# Altium footprint library 2.54排针排母.PcbLib: 60 footprints (part 4 of 4)
Each footprint in its own frame and in the unit in brackets; x right, y up, seen from the top. Pads: shape width x height; smd on the part's side, far side on the other; paste and mask are expansions set on the pad; w line width, h text height; cw(c..) or ccw(c..) is an arc to the next point about the centre after c.
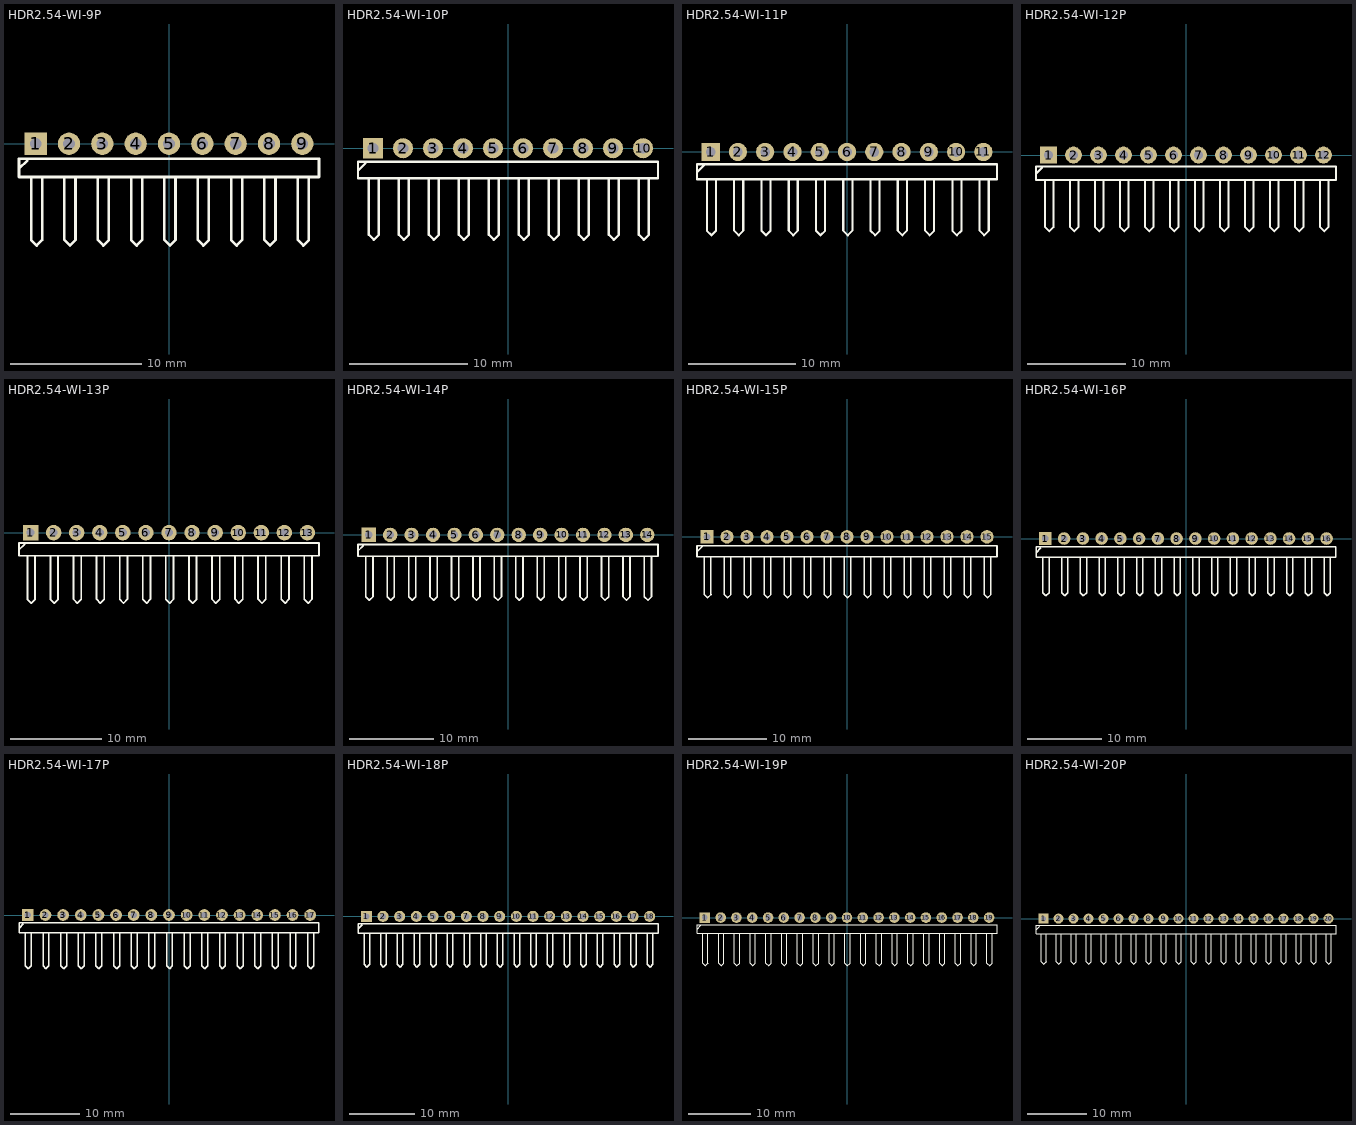
[diagram p3: the footprints below, top view; thin cyan lines are the x and y axes]

## HDR2.54-WI-9P [mm] "弯脚排针，9脚"
pads (9):
  rect 1.7x1.7 hole 0.9: 1(-10.16,0)
  round 1.7 hole 0.9: 2(-7.62,0) 3(-5.08,0) 4(-2.54,0) 5(0,0) 6(2.54,0) 7(5.08,0) 8(7.62,0) 9(10.16,0)
Top Overlay:
  lines w0.2: -11.43,-1.905 -10.795,-1.27 ; -10.508,-2.54 -10.508,-7.332 -10.085,-7.755 -9.661,-7.332 -9.652,-7.323 ; -9.661,-7.323 -9.661,-2.54 ; -7.968,-2.54 -7.968,-7.332 -7.545,-7.755 -7.121,-7.332 ; -7.121,-7.323 -7.121,-2.54 ; -5.428,-2.54 -5.428,-7.332 -5.005,-7.755 -4.581,-7.332 ; -4.581,-7.323 -4.581,-2.54 ; -2.888,-2.54 -2.888,-7.332 -2.465,-7.755 -2.041,-7.332 ; -2.041,-7.323 -2.041,-2.54 ; -0.348,-2.54 -0.348,-7.332 0.075,-7.755 0.499,-7.332 ; 0.499,-7.323 0.499,-2.54 ; 2.192,-2.54 2.192,-7.332 2.615,-7.755 3.039,-7.332 ; 3.039,-7.323 3.039,-2.54 ; 4.732,-2.54 4.732,-7.332 5.155,-7.755 5.579,-7.332 ; 5.579,-7.323 5.579,-2.54 ; 7.272,-2.54 7.272,-7.332 7.695,-7.755 8.119,-7.332 ; 8.119,-7.323 8.119,-2.54 ; 9.812,-2.54 9.812,-7.332 10.235,-7.755 10.659,-7.332 ; 10.659,-7.323 10.659,-2.54 ; -11.43,-2.54 -11.43,-1.143 -9.652,-1.143 11.43,-1.143 11.43,-2.54 -11.43,-2.54
3D body "HDR2.54-1P_H.STEP": height 4.85, standoff -3, extent -11.43,-7.77 -8.89,1.27
3D body "HDR2.54-1P_H.STEP": height 4.85, standoff -3, extent -8.89,-7.77 -6.35,1.27
3D body "HDR2.54-1P_H.STEP": height 4.85, standoff -3, extent -6.35,-7.77 -3.81,1.27
3D body "HDR2.54-1P_H.STEP": height 4.85, standoff -3, extent -3.81,-7.77 -1.27,1.27
3D body "HDR2.54-1P_H.STEP": height 4.85, standoff -3, extent -1.27,-7.77 1.27,1.27
3D body "HDR2.54-1P_H.STEP": height 4.85, standoff -3, extent 1.27,-7.77 3.81,1.27
3D body "HDR2.54-1P_H.STEP": height 4.85, standoff -3, extent 3.81,-7.77 6.35,1.27
3D body "HDR2.54-1P_H.STEP": height 4.85, standoff -3, extent 6.35,-7.77 8.89,1.27
3D body "HDR2.54-1P_H.STEP": height 4.85, standoff -3, extent 8.89,-7.77 11.43,1.27

## HDR2.54-WI-10P [mm] "弯脚排针，10脚"
pads (10):
  rect 1.7x1.7 hole 0.9: 1(-11.43,0)
  round 1.7 hole 0.9: 2(-8.89,0) 3(-6.35,0) 4(-3.81,0) 5(-1.27,0) 6(1.27,0) 7(3.81,0) 8(6.35,0) 9(8.89,0) 10(11.43,0)
Top Overlay:
  lines w0.2: -12.7,-1.905 -12.065,-1.27 ; -11.778,-2.54 -11.778,-7.332 -11.355,-7.755 -10.931,-7.332 -10.922,-7.323 ; -10.931,-7.323 -10.931,-2.54 ; -9.238,-2.54 -9.238,-7.332 -8.815,-7.755 -8.391,-7.332 ; -8.391,-7.323 -8.391,-2.54 ; -6.698,-2.54 -6.698,-7.332 -6.275,-7.755 -5.851,-7.332 ; -5.851,-7.323 -5.851,-2.54 ; -4.158,-2.54 -4.158,-7.332 -3.735,-7.755 -3.311,-7.332 ; -3.311,-7.323 -3.311,-2.54 ; -1.618,-2.54 -1.618,-7.332 -1.195,-7.755 -0.771,-7.332 ; -0.771,-7.323 -0.771,-2.54 ; 0.922,-2.54 0.922,-7.332 1.345,-7.755 1.769,-7.332 ; 1.769,-7.323 1.769,-2.54 ; 3.462,-2.54 3.462,-7.332 3.885,-7.755 4.309,-7.332 ; 4.309,-7.323 4.309,-2.54 ; 6.002,-2.54 6.002,-7.332 6.425,-7.755 6.849,-7.332 ; 6.849,-7.323 6.849,-2.54 ; 8.542,-2.54 8.542,-7.332 8.965,-7.755 9.389,-7.332 ; 9.389,-7.323 9.389,-2.54 ; 11.082,-2.54 11.082,-7.332 11.505,-7.755 11.929,-7.332 ; 11.929,-7.323 11.929,-2.54 ; -12.7,-2.54 12.7,-2.54 12.7,-1.143 -10.922,-1.143 -12.7,-1.143 -12.7,-2.54
3D body "HDR2.54-1P_H.STEP": height 4.85, standoff -3, extent 10.16,-7.77 12.7,1.27
3D body "HDR2.54-1P_H.STEP": height 4.85, standoff -3, extent 7.62,-7.77 10.16,1.27
3D body "HDR2.54-1P_H.STEP": height 4.85, standoff -3, extent 5.08,-7.77 7.62,1.27
3D body "HDR2.54-1P_H.STEP": height 4.85, standoff -3, extent 2.54,-7.77 5.08,1.27
3D body "HDR2.54-1P_H.STEP": height 4.85, standoff -3, extent 0,-7.77 2.54,1.27
3D body "HDR2.54-1P_H.STEP": height 4.85, standoff -3, extent -2.54,-7.77 0,1.27
3D body "HDR2.54-1P_H.STEP": height 4.85, standoff -3, extent -5.08,-7.77 -2.54,1.27
3D body "HDR2.54-1P_H.STEP": height 4.85, standoff -3, extent -7.62,-7.77 -5.08,1.27
3D body "HDR2.54-1P_H.STEP": height 4.85, standoff -3, extent -10.16,-7.77 -7.62,1.27
3D body "HDR2.54-1P_H.STEP": height 4.85, standoff -3, extent -12.7,-7.77 -10.16,1.27

## HDR2.54-WI-11P [mm] "弯脚排针，11脚"
pads (11):
  rect 1.7x1.7 hole 0.9: 1(-12.7,0)
  round 1.7 hole 0.9: 2(-10.16,0) 3(-7.62,0) 4(-5.08,0) 5(-2.54,0) 6(0,0) 7(2.54,0) 8(5.08,0) 9(7.62,0) 10(10.16,0) 11(12.7,0)
Top Overlay:
  lines w0.2: -13.97,-1.905 -13.335,-1.27 ; -13.048,-2.54 -13.048,-7.332 -12.625,-7.755 -12.201,-7.332 -12.192,-7.323 ; -12.201,-7.323 -12.201,-2.54 ; -10.508,-2.54 -10.508,-7.332 -10.085,-7.755 -9.661,-7.332 ; -9.661,-7.323 -9.661,-2.54 ; -7.968,-2.54 -7.968,-7.332 -7.545,-7.755 -7.121,-7.332 ; -7.121,-7.323 -7.121,-2.54 ; -5.428,-2.54 -5.428,-7.332 -5.005,-7.755 -4.581,-7.332 ; -4.581,-7.323 -4.581,-2.54 ; -2.888,-2.54 -2.888,-7.332 -2.465,-7.755 -2.041,-7.332 ; -2.041,-7.323 -2.041,-2.54 ; -0.348,-2.54 -0.348,-7.332 0.075,-7.755 0.499,-7.332 ; 0.499,-7.323 0.499,-2.54 ; 2.192,-2.54 2.192,-7.332 2.615,-7.755 3.039,-7.332 ; 3.039,-7.323 3.039,-2.54 ; 4.732,-2.54 4.732,-7.332 5.155,-7.755 5.579,-7.332 ; 5.579,-7.323 5.579,-2.54 ; 7.272,-2.54 7.272,-7.332 7.695,-7.755 8.119,-7.332 ; 8.119,-7.323 8.119,-2.54 ; 9.812,-2.54 9.812,-7.332 10.235,-7.755 10.659,-7.332 ; 10.659,-7.323 10.659,-2.54 ; 12.352,-2.54 12.352,-7.332 12.775,-7.755 13.199,-7.332 ; 13.199,-7.323 13.199,-2.54 ; -13.97,-2.54 -13.97,-1.143 -12.192,-1.143 13.97,-1.143 13.97,-2.54 -13.97,-2.54
3D body "HDR2.54-1P_H.STEP": height 4.85, standoff -3, extent -13.97,-7.77 -11.43,1.27
3D body "HDR2.54-1P_H.STEP": height 4.85, standoff -3, extent -11.43,-7.77 -8.89,1.27
3D body "HDR2.54-1P_H.STEP": height 4.85, standoff -3, extent -8.89,-7.77 -6.35,1.27
3D body "HDR2.54-1P_H.STEP": height 4.85, standoff -3, extent -6.35,-7.77 -3.81,1.27
3D body "HDR2.54-1P_H.STEP": height 4.85, standoff -3, extent -3.81,-7.77 -1.27,1.27
3D body "HDR2.54-1P_H.STEP": height 4.85, standoff -3, extent -1.27,-7.77 1.27,1.27
3D body "HDR2.54-1P_H.STEP": height 4.85, standoff -3, extent 1.27,-7.77 3.81,1.27
3D body "HDR2.54-1P_H.STEP": height 4.85, standoff -3, extent 3.81,-7.77 6.35,1.27
3D body "HDR2.54-1P_H.STEP": height 4.85, standoff -3, extent 6.35,-7.77 8.89,1.27
3D body "HDR2.54-1P_H.STEP": height 4.85, standoff -3, extent 8.89,-7.77 11.43,1.27
3D body "HDR2.54-1P_H.STEP": height 4.85, standoff -3, extent 11.43,-7.77 13.97,1.27

## HDR2.54-WI-12P [mm] "弯脚排针，12脚"
pads (12):
  rect 1.7x1.7 hole 0.9: 1(-13.97,0)
  round 1.7 hole 0.9: 2(-11.43,0) 3(-8.89,0) 4(-6.35,0) 5(-3.81,0) 6(-1.27,0) 7(1.27,0) 8(3.81,0) 9(6.35,0) 10(8.89,0) 11(11.43,0) 12(13.97,0)
Top Overlay:
  lines w0.2: -15.24,-1.905 -14.605,-1.27 ; -14.318,-2.54 -14.318,-7.332 -13.895,-7.755 -13.471,-7.332 -13.462,-7.323 ; -13.471,-7.323 -13.471,-2.54 ; -11.778,-2.54 -11.778,-7.332 -11.355,-7.755 -10.931,-7.332 ; -10.931,-7.323 -10.931,-2.54 ; -9.238,-2.54 -9.238,-7.332 -8.815,-7.755 -8.391,-7.332 ; -8.391,-7.323 -8.391,-2.54 ; -6.698,-2.54 -6.698,-7.332 -6.275,-7.755 -5.851,-7.332 ; -5.851,-7.323 -5.851,-2.54 ; -4.158,-2.54 -4.158,-7.332 -3.735,-7.755 -3.311,-7.332 ; -3.311,-7.323 -3.311,-2.54 ; -1.618,-2.54 -1.618,-7.332 -1.195,-7.755 -0.771,-7.332 ; -0.771,-7.323 -0.771,-2.54 ; 0.922,-2.54 0.922,-7.332 1.345,-7.755 1.769,-7.332 ; 1.769,-7.323 1.769,-2.54 ; 3.462,-2.54 3.462,-7.332 3.885,-7.755 4.309,-7.332 ; 4.309,-7.323 4.309,-2.54 ; 6.002,-2.54 6.002,-7.332 6.425,-7.755 6.849,-7.332 ; 6.849,-7.323 6.849,-2.54 ; 8.542,-2.54 8.542,-7.332 8.965,-7.755 9.389,-7.332 ; 9.389,-7.323 9.389,-2.54 ; 11.082,-2.54 11.082,-7.332 11.505,-7.755 11.929,-7.332 ; 11.929,-7.323 11.929,-2.54 ; 13.622,-2.54 13.622,-7.332 14.045,-7.755 14.469,-7.332 ; 14.469,-7.323 14.469,-2.54 ; -15.24,-2.54 -15.24,-1.143 -13.462,-1.143 15.24,-1.143 15.24,-2.54 -15.24,-2.54
3D body "HDR2.54-1P_H.STEP": height 4.85, standoff -3, extent 12.7,-7.77 15.24,1.27
3D body "HDR2.54-1P_H.STEP": height 4.85, standoff -3, extent 10.16,-7.77 12.7,1.27
3D body "HDR2.54-1P_H.STEP": height 4.85, standoff -3, extent 7.62,-7.77 10.16,1.27
3D body "HDR2.54-1P_H.STEP": height 4.85, standoff -3, extent 5.08,-7.77 7.62,1.27
3D body "HDR2.54-1P_H.STEP": height 4.85, standoff -3, extent 2.54,-7.77 5.08,1.27
3D body "HDR2.54-1P_H.STEP": height 4.85, standoff -3, extent 0,-7.77 2.54,1.27
3D body "HDR2.54-1P_H.STEP": height 4.85, standoff -3, extent -2.54,-7.77 0,1.27
3D body "HDR2.54-1P_H.STEP": height 4.85, standoff -3, extent -5.08,-7.77 -2.54,1.27
3D body "HDR2.54-1P_H.STEP": height 4.85, standoff -3, extent -7.62,-7.77 -5.08,1.27
3D body "HDR2.54-1P_H.STEP": height 4.85, standoff -3, extent -10.16,-7.77 -7.62,1.27
3D body "HDR2.54-1P_H.STEP": height 4.85, standoff -3, extent -12.7,-7.77 -10.16,1.27
3D body "HDR2.54-1P_H.STEP": height 4.85, standoff -3, extent -15.24,-7.77 -12.7,1.27

## HDR2.54-WI-13P [mm] "弯脚排针，13脚"
pads (13):
  rect 1.7x1.7 hole 0.9: 1(-15.24,0)
  round 1.7 hole 0.9: 2(-12.7,0) 3(-10.16,0) 4(-7.62,0) 5(-5.08,0) 6(-2.54,0) 7(0,0) 8(2.54,0) 9(5.08,0) 10(7.62,0) 11(10.16,0) 12(12.7,0) 13(15.24,0)
Top Overlay:
  lines w0.2: -16.51,-1.905 -15.875,-1.27 ; -15.588,-2.54 -15.588,-7.332 -15.165,-7.755 -14.741,-7.332 -14.732,-7.323 ; -14.741,-7.323 -14.741,-2.54 ; -13.048,-2.54 -13.048,-7.332 -12.625,-7.755 -12.201,-7.332 ; -12.201,-7.323 -12.201,-2.54 ; -10.508,-2.54 -10.508,-7.332 -10.085,-7.755 -9.661,-7.332 ; -9.661,-7.323 -9.661,-2.54 ; -7.968,-2.54 -7.968,-7.332 -7.545,-7.755 -7.121,-7.332 ; -7.121,-7.323 -7.121,-2.54 ; -5.428,-2.54 -5.428,-7.332 -5.005,-7.755 -4.581,-7.332 ; -4.581,-7.323 -4.581,-2.54 ; -2.888,-2.54 -2.888,-7.332 -2.465,-7.755 -2.041,-7.332 ; -2.041,-7.323 -2.041,-2.54 ; -0.348,-2.54 -0.348,-7.332 0.075,-7.755 0.499,-7.332 ; 0.499,-7.323 0.499,-2.54 ; 2.192,-2.54 2.192,-7.332 2.615,-7.755 3.039,-7.332 ; 3.039,-7.323 3.039,-2.54 ; 4.732,-2.54 4.732,-7.332 5.155,-7.755 5.579,-7.332 ; 5.579,-7.323 5.579,-2.54 ; 7.272,-2.54 7.272,-7.332 7.695,-7.755 8.119,-7.332 ; 8.119,-7.323 8.119,-2.54 ; 9.812,-2.54 9.812,-7.332 10.235,-7.755 10.659,-7.332 ; 10.659,-7.323 10.659,-2.54 ; 12.352,-2.54 12.352,-7.332 12.775,-7.755 13.199,-7.332 ; 13.199,-7.323 13.199,-2.54 ; 14.892,-2.54 14.892,-7.332 15.315,-7.755 15.739,-7.332 ; 15.739,-7.323 15.739,-2.54 ; -16.51,-2.54 16.51,-2.54 16.51,-1.143 -14.732,-1.143 -16.51,-1.143 -16.51,-2.54
3D body "HDR2.54-1P_H.STEP": height 4.85, standoff -3, extent 13.97,-7.77 16.51,1.27
3D body "HDR2.54-1P_H.STEP": height 4.85, standoff -3, extent 11.43,-7.77 13.97,1.27
3D body "HDR2.54-1P_H.STEP": height 4.85, standoff -3, extent 8.89,-7.77 11.43,1.27
3D body "HDR2.54-1P_H.STEP": height 4.85, standoff -3, extent 6.35,-7.77 8.89,1.27
3D body "HDR2.54-1P_H.STEP": height 4.85, standoff -3, extent 3.81,-7.77 6.35,1.27
3D body "HDR2.54-1P_H.STEP": height 4.85, standoff -3, extent 1.27,-7.77 3.81,1.27
3D body "HDR2.54-1P_H.STEP": height 4.85, standoff -3, extent -1.27,-7.77 1.27,1.27
3D body "HDR2.54-1P_H.STEP": height 4.85, standoff -3, extent -3.81,-7.77 -1.27,1.27
3D body "HDR2.54-1P_H.STEP": height 4.85, standoff -3, extent -6.35,-7.77 -3.81,1.27
3D body "HDR2.54-1P_H.STEP": height 4.85, standoff -3, extent -8.89,-7.77 -6.35,1.27
3D body "HDR2.54-1P_H.STEP": height 4.85, standoff -3, extent -11.43,-7.77 -8.89,1.27
3D body "HDR2.54-1P_H.STEP": height 4.85, standoff -3, extent -13.97,-7.77 -11.43,1.27
3D body "HDR2.54-1P_H.STEP": height 4.85, standoff -3, extent -16.51,-7.77 -13.97,1.27

## HDR2.54-WI-14P [mm] "弯脚排针，14脚"
pads (14):
  rect 1.7x1.7 hole 0.9: 1(-16.51,0)
  round 1.7 hole 0.9: 2(-13.97,0) 3(-11.43,0) 4(-8.89,0) 5(-6.35,0) 6(-3.81,0) 7(-1.27,0) 8(1.27,0) 9(3.81,0) 10(6.35,0) 11(8.89,0) 12(11.43,0) 13(13.97,0) 14(16.51,0)
Top Overlay:
  lines w0.2: -17.78,-1.905 -17.145,-1.27 ; -16.858,-2.54 -16.858,-7.332 -16.435,-7.755 -16.011,-7.332 -16.002,-7.323 ; -16.011,-7.323 -16.011,-2.54 ; -14.318,-2.54 -14.318,-7.332 -13.895,-7.755 -13.471,-7.332 ; -13.471,-7.323 -13.471,-2.54 ; -11.778,-2.54 -11.778,-7.332 -11.355,-7.755 -10.931,-7.332 ; -10.931,-7.323 -10.931,-2.54 ; -9.238,-2.54 -9.238,-7.332 -8.815,-7.755 -8.391,-7.332 ; -8.391,-7.323 -8.391,-2.54 ; -6.698,-2.54 -6.698,-7.332 -6.275,-7.755 -5.851,-7.332 ; -5.851,-7.323 -5.851,-2.54 ; -4.158,-2.54 -4.158,-7.332 -3.735,-7.755 -3.311,-7.332 ; -3.311,-7.323 -3.311,-2.54 ; -1.618,-2.54 -1.618,-7.332 -1.195,-7.755 -0.771,-7.332 ; -0.771,-7.323 -0.771,-2.54 ; 0.922,-2.54 0.922,-7.332 1.345,-7.755 1.769,-7.332 ; 1.769,-7.323 1.769,-2.54 ; 3.462,-2.54 3.462,-7.332 3.885,-7.755 4.309,-7.332 ; 4.309,-7.323 4.309,-2.54 ; 6.002,-2.54 6.002,-7.332 6.425,-7.755 6.849,-7.332 ; 6.849,-7.323 6.849,-2.54 ; 8.542,-2.54 8.542,-7.332 8.965,-7.755 9.389,-7.332 ; 9.389,-7.323 9.389,-2.54 ; 11.082,-2.54 11.082,-7.332 11.505,-7.755 11.929,-7.332 ; 11.929,-7.323 11.929,-2.54 ; 13.622,-2.54 13.622,-7.332 14.045,-7.755 14.469,-7.332 ; 14.469,-7.323 14.469,-2.54 ; 16.162,-2.54 16.162,-7.332 16.585,-7.755 17.009,-7.332 ; 17.009,-7.323 17.009,-2.54 ; -17.78,-2.54 -17.78,-1.143 -16.002,-1.143 17.78,-1.143 17.78,-2.54 -17.78,-2.54
3D body "HDR2.54-1P_H.STEP": height 4.85, standoff -3, extent 15.24,-7.77 17.78,1.27
3D body "HDR2.54-1P_H.STEP": height 4.85, standoff -3, extent 12.7,-7.77 15.24,1.27
3D body "HDR2.54-1P_H.STEP": height 4.85, standoff -3, extent 10.16,-7.77 12.7,1.27
3D body "HDR2.54-1P_H.STEP": height 4.85, standoff -3, extent 7.62,-7.77 10.16,1.27
3D body "HDR2.54-1P_H.STEP": height 4.85, standoff -3, extent 5.08,-7.77 7.62,1.27
3D body "HDR2.54-1P_H.STEP": height 4.85, standoff -3, extent 2.54,-7.77 5.08,1.27
3D body "HDR2.54-1P_H.STEP": height 4.85, standoff -3, extent 0,-7.77 2.54,1.27
3D body "HDR2.54-1P_H.STEP": height 4.85, standoff -3, extent -2.54,-7.77 0,1.27
3D body "HDR2.54-1P_H.STEP": height 4.85, standoff -3, extent -5.08,-7.77 -2.54,1.27
3D body "HDR2.54-1P_H.STEP": height 4.85, standoff -3, extent -7.62,-7.77 -5.08,1.27
3D body "HDR2.54-1P_H.STEP": height 4.85, standoff -3, extent -10.16,-7.77 -7.62,1.27
3D body "HDR2.54-1P_H.STEP": height 4.85, standoff -3, extent -12.7,-7.77 -10.16,1.27
3D body "HDR2.54-1P_H.STEP": height 4.85, standoff -3, extent -15.24,-7.77 -12.7,1.27
3D body "HDR2.54-1P_H.STEP": height 4.85, standoff -3, extent -17.78,-7.77 -15.24,1.27

## HDR2.54-WI-15P [mm] "弯脚排针，15脚"
pads (15):
  rect 1.7x1.7 hole 0.9: 1(-17.78,0)
  round 1.7 hole 0.9: 2(-15.24,0) 3(-12.7,0) 4(-10.16,0) 5(-7.62,0) 6(-5.08,0) 7(-2.54,0) 8(0,0) 9(2.54,0) 10(5.08,0) 11(7.62,0) 12(10.16,0) 13(12.7,0) 14(15.24,0) 15(17.78,0)
Top Overlay:
  lines w0.2: -19.05,-1.905 -18.415,-1.27 ; -18.128,-2.54 -18.128,-7.332 -17.705,-7.755 -17.281,-7.332 -17.272,-7.323 ; -17.281,-7.323 -17.281,-2.54 ; -15.588,-2.54 -15.588,-7.332 -15.165,-7.755 -14.741,-7.332 ; -14.741,-7.323 -14.741,-2.54 ; -13.048,-2.54 -13.048,-7.332 -12.625,-7.755 -12.201,-7.332 ; -12.201,-7.323 -12.201,-2.54 ; -10.508,-2.54 -10.508,-7.332 -10.085,-7.755 -9.661,-7.332 ; -9.661,-7.323 -9.661,-2.54 ; -7.968,-2.54 -7.968,-7.332 -7.545,-7.755 -7.121,-7.332 ; -7.121,-7.323 -7.121,-2.54 ; -5.428,-2.54 -5.428,-7.332 -5.005,-7.755 -4.581,-7.332 ; -4.581,-7.323 -4.581,-2.54 ; -2.888,-2.54 -2.888,-7.332 -2.465,-7.755 -2.041,-7.332 ; -2.041,-7.323 -2.041,-2.54 ; -0.348,-2.54 -0.348,-7.332 0.075,-7.755 0.499,-7.332 ; 0.499,-7.323 0.499,-2.54 ; 2.192,-2.54 2.192,-7.332 2.615,-7.755 3.039,-7.332 ; 3.039,-7.323 3.039,-2.54 ; 4.732,-2.54 4.732,-7.332 5.155,-7.755 5.579,-7.332 ; 5.579,-7.323 5.579,-2.54 ; 7.272,-2.54 7.272,-7.332 7.695,-7.755 8.119,-7.332 ; 8.119,-7.323 8.119,-2.54 ; 9.812,-2.54 9.812,-7.332 10.235,-7.755 10.659,-7.332 ; 10.659,-7.323 10.659,-2.54 ; 12.352,-2.54 12.352,-7.332 12.775,-7.755 13.199,-7.332 ; 13.199,-7.323 13.199,-2.54 ; 14.892,-2.54 14.892,-7.332 15.315,-7.755 15.739,-7.332 ; 15.739,-7.323 15.739,-2.54 ; 17.432,-2.54 17.432,-7.332 17.855,-7.755 18.279,-7.332 ; 18.279,-7.323 18.279,-2.54 ; -19.05,-2.54 -19.05,-1.143 -17.272,-1.143 19.05,-1.143 19.05,-2.54 -19.05,-2.54
3D body "HDR2.54-1P_H.STEP": height 4.85, standoff -3, extent -19.05,-7.77 -16.51,1.27
3D body "HDR2.54-1P_H.STEP": height 4.85, standoff -3, extent -16.51,-7.77 -13.97,1.27
3D body "HDR2.54-1P_H.STEP": height 4.85, standoff -3, extent -13.97,-7.77 -11.43,1.27
3D body "HDR2.54-1P_H.STEP": height 4.85, standoff -3, extent -11.43,-7.77 -8.89,1.27
3D body "HDR2.54-1P_H.STEP": height 4.85, standoff -3, extent -8.89,-7.77 -6.35,1.27
3D body "HDR2.54-1P_H.STEP": height 4.85, standoff -3, extent -6.35,-7.77 -3.81,1.27
3D body "HDR2.54-1P_H.STEP": height 4.85, standoff -3, extent -3.81,-7.77 -1.27,1.27
3D body "HDR2.54-1P_H.STEP": height 4.85, standoff -3, extent -1.27,-7.77 1.27,1.27
3D body "HDR2.54-1P_H.STEP": height 4.85, standoff -3, extent 1.27,-7.77 3.81,1.27
3D body "HDR2.54-1P_H.STEP": height 4.85, standoff -3, extent 3.81,-7.77 6.35,1.27
3D body "HDR2.54-1P_H.STEP": height 4.85, standoff -3, extent 6.35,-7.77 8.89,1.27
3D body "HDR2.54-1P_H.STEP": height 4.85, standoff -3, extent 8.89,-7.77 11.43,1.27
3D body "HDR2.54-1P_H.STEP": height 4.85, standoff -3, extent 11.43,-7.77 13.97,1.27
3D body "HDR2.54-1P_H.STEP": height 4.85, standoff -3, extent 13.97,-7.77 16.51,1.27
3D body "HDR2.54-1P_H.STEP": height 4.85, standoff -3, extent 16.51,-7.77 19.05,1.27

## HDR2.54-WI-16P [mm] "弯脚排针，16脚"
pads (16):
  rect 1.7x1.7 hole 0.9: 1(-19.05,0)
  round 1.7 hole 0.9: 2(-16.51,0) 3(-13.97,0) 4(-11.43,0) 5(-8.89,0) 6(-6.35,0) 7(-3.81,0) 8(-1.27,0) 9(1.27,0) 10(3.81,0) 11(6.35,0) 12(8.89,0) 13(11.43,0) 14(13.97,0) 15(16.51,0) 16(19.05,0)
Top Overlay:
  lines w0.2: -20.32,-1.905 -19.685,-1.27 ; -19.398,-2.54 -19.398,-7.332 -18.975,-7.755 -18.551,-7.332 -18.542,-7.323 ; -18.551,-7.323 -18.551,-2.54 ; -16.858,-2.54 -16.858,-7.332 -16.435,-7.755 -16.011,-7.332 ; -16.011,-7.323 -16.011,-2.54 ; -14.318,-2.54 -14.318,-7.332 -13.895,-7.755 -13.471,-7.332 ; -13.471,-7.323 -13.471,-2.54 ; -11.778,-2.54 -11.778,-7.332 -11.355,-7.755 -10.931,-7.332 ; -10.931,-7.323 -10.931,-2.54 ; -9.238,-2.54 -9.238,-7.332 -8.815,-7.755 -8.391,-7.332 ; -8.391,-7.323 -8.391,-2.54 ; -6.698,-2.54 -6.698,-7.332 -6.275,-7.755 -5.851,-7.332 ; -5.851,-7.323 -5.851,-2.54 ; -4.158,-2.54 -4.158,-7.332 -3.735,-7.755 -3.311,-7.332 ; -3.311,-7.323 -3.311,-2.54 ; -1.618,-2.54 -1.618,-7.332 -1.195,-7.755 -0.771,-7.332 ; -0.771,-7.323 -0.771,-2.54 ; 0.922,-2.54 0.922,-7.332 1.345,-7.755 1.769,-7.332 ; 1.769,-7.323 1.769,-2.54 ; 3.462,-2.54 3.462,-7.332 3.885,-7.755 4.309,-7.332 ; 4.309,-7.323 4.309,-2.54 ; 6.002,-2.54 6.002,-7.332 6.425,-7.755 6.849,-7.332 ; 6.849,-7.323 6.849,-2.54 ; 8.542,-2.54 8.542,-7.332 8.965,-7.755 9.389,-7.332 ; 9.389,-7.323 9.389,-2.54 ; 11.082,-2.54 11.082,-7.332 11.505,-7.755 11.929,-7.332 ; 11.929,-7.323 11.929,-2.54 ; 13.622,-2.54 13.622,-7.332 14.045,-7.755 14.469,-7.332 ; 14.469,-7.323 14.469,-2.54 ; 16.162,-2.54 16.162,-7.332 16.585,-7.755 17.009,-7.332 ; 17.009,-7.323 17.009,-2.54 ; 18.702,-2.54 18.702,-7.332 19.125,-7.755 19.549,-7.332 ; 19.549,-7.323 19.549,-2.54 ; -20.32,-2.54 -20.32,-1.143 -18.542,-1.143 20.32,-1.143 20.32,-2.54 -20.32,-2.54
3D body "HDR2.54-1P_H.STEP": height 4.85, standoff -3, extent -20.32,-7.77 -17.78,1.27
3D body "HDR2.54-1P_H.STEP": height 4.85, standoff -3, extent -17.78,-7.77 -15.24,1.27
3D body "HDR2.54-1P_H.STEP": height 4.85, standoff -3, extent -15.24,-7.77 -12.7,1.27
3D body "HDR2.54-1P_H.STEP": height 4.85, standoff -3, extent -12.7,-7.77 -10.16,1.27
3D body "HDR2.54-1P_H.STEP": height 4.85, standoff -3, extent -10.16,-7.77 -7.62,1.27
3D body "HDR2.54-1P_H.STEP": height 4.85, standoff -3, extent -7.62,-7.77 -5.08,1.27
3D body "HDR2.54-1P_H.STEP": height 4.85, standoff -3, extent -5.08,-7.77 -2.54,1.27
3D body "HDR2.54-1P_H.STEP": height 4.85, standoff -3, extent -2.54,-7.77 0,1.27
3D body "HDR2.54-1P_H.STEP": height 4.85, standoff -3, extent 0,-7.77 2.54,1.27
3D body "HDR2.54-1P_H.STEP": height 4.85, standoff -3, extent 2.54,-7.77 5.08,1.27
3D body "HDR2.54-1P_H.STEP": height 4.85, standoff -3, extent 5.08,-7.77 7.62,1.27
3D body "HDR2.54-1P_H.STEP": height 4.85, standoff -3, extent 7.62,-7.77 10.16,1.27
3D body "HDR2.54-1P_H.STEP": height 4.85, standoff -3, extent 10.16,-7.77 12.7,1.27
3D body "HDR2.54-1P_H.STEP": height 4.85, standoff -3, extent 12.7,-7.77 15.24,1.27
3D body "HDR2.54-1P_H.STEP": height 4.85, standoff -3, extent 15.24,-7.77 17.78,1.27
3D body "HDR2.54-1P_H.STEP": height 4.85, standoff -3, extent 17.78,-7.77 20.32,1.27

## HDR2.54-WI-17P [mm] "弯脚排针，17脚"
pads (17):
  rect 1.7x1.7 hole 0.9: 1(-20.32,0)
  round 1.7 hole 0.9: 2(-17.78,0) 3(-15.24,0) 4(-12.7,0) 5(-10.16,0) 6(-7.62,0) 7(-5.08,0) 8(-2.54,0) 9(0,0) 10(2.54,0) 11(5.08,0) 12(7.62,0) 13(10.16,0) 14(12.7,0) 15(15.24,0) 16(17.78,0) 17(20.32,0)
Top Overlay:
  lines w0.2: -21.59,-1.905 -20.955,-1.27 ; -20.668,-2.54 -20.668,-7.332 -20.245,-7.755 -19.821,-7.332 -19.812,-7.323 ; -19.821,-7.323 -19.821,-2.54 ; -18.128,-2.54 -18.128,-7.332 -17.705,-7.755 -17.281,-7.332 ; -17.281,-7.323 -17.281,-2.54 ; -15.588,-2.54 -15.588,-7.332 -15.165,-7.755 -14.741,-7.332 ; -14.741,-7.323 -14.741,-2.54 ; -13.048,-2.54 -13.048,-7.332 -12.625,-7.755 -12.201,-7.332 ; -12.201,-7.323 -12.201,-2.54 ; -10.508,-2.54 -10.508,-7.332 -10.085,-7.755 -9.661,-7.332 ; -9.661,-7.323 -9.661,-2.54 ; -7.968,-2.54 -7.968,-7.332 -7.545,-7.755 -7.121,-7.332 ; -7.121,-7.323 -7.121,-2.54 ; -5.428,-2.54 -5.428,-7.332 -5.005,-7.755 -4.581,-7.332 ; -4.581,-7.323 -4.581,-2.54 ; -2.888,-2.54 -2.888,-7.332 -2.465,-7.755 -2.041,-7.332 ; -2.041,-7.323 -2.041,-2.54 ; -0.348,-2.54 -0.348,-7.332 0.075,-7.755 0.499,-7.332 ; 0.499,-7.323 0.499,-2.54 ; 2.192,-2.54 2.192,-7.332 2.615,-7.755 3.039,-7.332 ; 3.039,-7.323 3.039,-2.54 ; 4.732,-2.54 4.732,-7.332 5.155,-7.755 5.579,-7.332 ; 5.579,-7.323 5.579,-2.54 ; 7.272,-2.54 7.272,-7.332 7.695,-7.755 8.119,-7.332 ; 8.119,-7.323 8.119,-2.54 ; 9.812,-2.54 9.812,-7.332 10.235,-7.755 10.659,-7.332 ; 10.659,-7.323 10.659,-2.54 ; 12.352,-2.54 12.352,-7.332 12.775,-7.755 13.199,-7.332 ; 13.199,-7.323 13.199,-2.54 ; 14.892,-2.54 14.892,-7.332 15.315,-7.755 15.739,-7.332 ; 15.739,-7.323 15.739,-2.54 ; 17.432,-2.54 17.432,-7.332 17.855,-7.755 18.279,-7.332 ; 18.279,-7.323 18.279,-2.54 ; 19.972,-2.54 19.972,-7.332 20.395,-7.755 20.819,-7.332 ; 20.819,-7.323 20.819,-2.54 ; -21.59,-2.54 21.59,-2.54 21.59,-1.143 -19.812,-1.143 -21.59,-1.143 -21.59,-2.54
3D body "HDR2.54-1P_H.STEP": height 4.85, standoff -3, extent 19.05,-7.77 21.59,1.27
3D body "HDR2.54-1P_H.STEP": height 4.85, standoff -3, extent 16.51,-7.77 19.05,1.27
3D body "HDR2.54-1P_H.STEP": height 4.85, standoff -3, extent 13.97,-7.77 16.51,1.27
3D body "HDR2.54-1P_H.STEP": height 4.85, standoff -3, extent 11.43,-7.77 13.97,1.27
3D body "HDR2.54-1P_H.STEP": height 4.85, standoff -3, extent 8.89,-7.77 11.43,1.27
3D body "HDR2.54-1P_H.STEP": height 4.85, standoff -3, extent 6.35,-7.77 8.89,1.27
3D body "HDR2.54-1P_H.STEP": height 4.85, standoff -3, extent 3.81,-7.77 6.35,1.27
3D body "HDR2.54-1P_H.STEP": height 4.85, standoff -3, extent -11.43,-7.77 -8.89,1.27
3D body "HDR2.54-1P_H.STEP": height 4.85, standoff -3, extent -13.97,-7.77 -11.43,1.27
3D body "HDR2.54-1P_H.STEP": height 4.85, standoff -3, extent -16.51,-7.77 -13.97,1.27
3D body "HDR2.54-1P_H.STEP": height 4.85, standoff -3, extent -19.05,-7.77 -16.51,1.27
3D body "HDR2.54-1P_H.STEP": height 4.85, standoff -3, extent -21.59,-7.77 -19.05,1.27
3D body "HDR2.54-1P_H.STEP": height 4.85, standoff -3, extent 1.27,-7.77 3.81,1.27
3D body "HDR2.54-1P_H.STEP": height 4.85, standoff -3, extent -1.27,-7.77 1.27,1.27
3D body "HDR2.54-1P_H.STEP": height 4.85, standoff -3, extent -3.81,-7.77 -1.27,1.27
3D body "HDR2.54-1P_H.STEP": height 4.85, standoff -3, extent -6.35,-7.77 -3.81,1.27
3D body "HDR2.54-1P_H.STEP": height 4.85, standoff -3, extent -8.89,-7.77 -6.35,1.27

## HDR2.54-WI-18P [mm] "弯脚排针，18脚"
pads (18):
  rect 1.7x1.7 hole 0.9: 1(-21.59,0)
  round 1.7 hole 0.9: 2(-19.05,0) 3(-16.51,0) 4(-13.97,0) 5(-11.43,0) 6(-8.89,0) 7(-6.35,0) 8(-3.81,0) 9(-1.27,0) 10(1.27,0) 11(3.81,0) 12(6.35,0) 13(8.89,0) 14(11.43,0) 15(13.97,0) 16(16.51,0) 17(19.05,0) 18(21.59,0)
Top Overlay:
  lines w0.2: -22.86,-1.905 -22.225,-1.27 ; -21.938,-2.54 -21.938,-7.332 -21.515,-7.755 -21.091,-7.332 -21.082,-7.323 ; -21.091,-7.323 -21.091,-2.54 ; -19.398,-2.54 -19.398,-7.332 -18.975,-7.755 -18.551,-7.332 ; -18.551,-7.323 -18.551,-2.54 ; -16.858,-2.54 -16.858,-7.332 -16.435,-7.755 -16.011,-7.332 ; -16.011,-7.323 -16.011,-2.54 ; -14.318,-2.54 -14.318,-7.332 -13.895,-7.755 -13.471,-7.332 ; -13.471,-7.323 -13.471,-2.54 ; -11.778,-2.54 -11.778,-7.332 -11.355,-7.755 -10.931,-7.332 ; -10.931,-7.323 -10.931,-2.54 ; -9.238,-2.54 -9.238,-7.332 -8.815,-7.755 -8.391,-7.332 ; -8.391,-7.323 -8.391,-2.54 ; -6.698,-2.54 -6.698,-7.332 -6.275,-7.755 -5.851,-7.332 ; -5.851,-7.323 -5.851,-2.54 ; -4.158,-2.54 -4.158,-7.332 -3.735,-7.755 -3.311,-7.332 ; -3.311,-7.323 -3.311,-2.54 ; -1.618,-2.54 -1.618,-7.332 -1.195,-7.755 -0.771,-7.332 ; -0.771,-7.323 -0.771,-2.54 ; 0.922,-2.54 0.922,-7.332 1.345,-7.755 1.769,-7.332 ; 1.769,-7.323 1.769,-2.54 ; 3.462,-2.54 3.462,-7.332 3.885,-7.755 4.309,-7.332 ; 4.309,-7.323 4.309,-2.54 ; 6.002,-2.54 6.002,-7.332 6.425,-7.755 6.849,-7.332 ; 6.849,-7.323 6.849,-2.54 ; 8.542,-2.54 8.542,-7.332 8.965,-7.755 9.389,-7.332 ; 9.389,-7.323 9.389,-2.54 ; 11.082,-2.54 11.082,-7.332 11.505,-7.755 11.929,-7.332 ; 11.929,-7.323 11.929,-2.54 ; 13.622,-2.54 13.622,-7.332 14.045,-7.755 14.469,-7.332 ; 14.469,-7.323 14.469,-2.54 ; 16.162,-2.54 16.162,-7.332 16.585,-7.755 17.009,-7.332 ; 17.009,-7.323 17.009,-2.54 ; 18.702,-2.54 18.702,-7.332 19.125,-7.755 19.549,-7.332 ; 19.549,-7.323 19.549,-2.54 ; 21.242,-2.54 21.242,-7.332 21.665,-7.755 22.089,-7.332 ; 22.089,-7.323 22.089,-2.54 ; -22.86,-2.54 -22.86,-1.143 -21.082,-1.143 22.86,-1.143 22.86,-2.54 -22.86,-2.54
3D body "HDR2.54-1P_H.STEP": height 4.85, standoff -3, extent 20.32,-7.77 22.86,1.27
3D body "HDR2.54-1P_H.STEP": height 4.85, standoff -3, extent 17.78,-7.77 20.32,1.27
3D body "HDR2.54-1P_H.STEP": height 4.85, standoff -3, extent 15.24,-7.77 17.78,1.27
3D body "HDR2.54-1P_H.STEP": height 4.85, standoff -3, extent 12.7,-7.77 15.24,1.27
3D body "HDR2.54-1P_H.STEP": height 4.85, standoff -3, extent 10.16,-7.77 12.7,1.27
3D body "HDR2.54-1P_H.STEP": height 4.85, standoff -3, extent 7.62,-7.77 10.16,1.27
3D body "HDR2.54-1P_H.STEP": height 4.85, standoff -3, extent 5.08,-7.77 7.62,1.27
3D body "HDR2.54-1P_H.STEP": height 4.85, standoff -3, extent 2.54,-7.77 5.08,1.27
3D body "HDR2.54-1P_H.STEP": height 4.85, standoff -3, extent 0,-7.77 2.54,1.27
3D body "HDR2.54-1P_H.STEP": height 4.85, standoff -3, extent -2.54,-7.77 0,1.27
3D body "HDR2.54-1P_H.STEP": height 4.85, standoff -3, extent -5.08,-7.77 -2.54,1.27
3D body "HDR2.54-1P_H.STEP": height 4.85, standoff -3, extent -7.62,-7.77 -5.08,1.27
3D body "HDR2.54-1P_H.STEP": height 4.85, standoff -3, extent -10.16,-7.77 -7.62,1.27
3D body "HDR2.54-1P_H.STEP": height 4.85, standoff -3, extent -12.7,-7.77 -10.16,1.27
3D body "HDR2.54-1P_H.STEP": height 4.85, standoff -3, extent -15.24,-7.77 -12.7,1.27
3D body "HDR2.54-1P_H.STEP": height 4.85, standoff -3, extent -17.78,-7.77 -15.24,1.27
3D body "HDR2.54-1P_H.STEP": height 4.85, standoff -3, extent -20.32,-7.77 -17.78,1.27
3D body "HDR2.54-1P_H.STEP": height 4.85, standoff -3, extent -22.86,-7.77 -20.32,1.27

## HDR2.54-WI-19P [mm] "弯脚排针，19脚"
pads (19):
  rect 1.7x1.7 hole 0.9: 1(-22.86,0)
  round 1.7 hole 0.9: 2(-20.32,0) 3(-17.78,0) 4(-15.24,0) 5(-12.7,0) 6(-10.16,0) 7(-7.62,0) 8(-5.08,0) 9(-2.54,0) 10(0,0) 11(2.54,0) 12(5.08,0) 13(7.62,0) 14(10.16,0) 15(12.7,0) 16(15.24,0) 17(17.78,0) 18(20.32,0) 19(22.86,0)
Top Overlay:
  lines w0.2: -24.13,-1.905 -23.495,-1.27 ; -23.208,-2.54 -23.208,-7.332 -22.785,-7.755 -22.361,-7.332 -22.352,-7.323 ; -22.361,-7.323 -22.361,-2.54 ; -20.668,-2.54 -20.668,-7.332 -20.245,-7.755 -19.821,-7.332 ; -19.821,-7.323 -19.821,-2.54 ; -18.128,-2.54 -18.128,-7.332 -17.705,-7.755 -17.281,-7.332 ; -17.281,-7.323 -17.281,-2.54 ; -15.588,-2.54 -15.588,-7.332 -15.165,-7.755 -14.741,-7.332 ; -14.741,-7.323 -14.741,-2.54 ; -13.048,-2.54 -13.048,-7.332 -12.625,-7.755 -12.201,-7.332 ; -12.201,-7.323 -12.201,-2.54 ; -10.508,-2.54 -10.508,-7.332 -10.085,-7.755 -9.661,-7.332 ; -9.661,-7.323 -9.661,-2.54 ; -7.968,-2.54 -7.968,-7.332 -7.545,-7.755 -7.121,-7.332 ; -7.121,-7.323 -7.121,-2.54 ; -5.428,-2.54 -5.428,-7.332 -5.005,-7.755 -4.581,-7.332 ; -4.581,-7.323 -4.581,-2.54 ; -2.888,-2.54 -2.888,-7.332 -2.465,-7.755 -2.041,-7.332 ; -2.041,-7.323 -2.041,-2.54 ; -0.348,-2.54 -0.348,-7.332 0.075,-7.755 0.499,-7.332 ; 0.499,-7.323 0.499,-2.54 ; 2.192,-2.54 2.192,-7.332 2.615,-7.755 3.039,-7.332 ; 3.039,-7.323 3.039,-2.54 ; 4.732,-2.54 4.732,-7.332 5.155,-7.755 5.579,-7.332 ; 5.579,-7.323 5.579,-2.54 ; 7.272,-2.54 7.272,-7.332 7.695,-7.755 8.119,-7.332 ; 8.119,-7.323 8.119,-2.54 ; 9.812,-2.54 9.812,-7.332 10.235,-7.755 10.659,-7.332 ; 10.659,-7.323 10.659,-2.54 ; 12.352,-2.54 12.352,-7.332 12.775,-7.755 13.199,-7.332 ; 13.199,-7.323 13.199,-2.54 ; 14.892,-2.54 14.892,-7.332 15.315,-7.755 15.739,-7.332 ; 15.739,-7.323 15.739,-2.54 ; 17.432,-2.54 17.432,-7.332 17.855,-7.755 18.279,-7.332 ; 18.279,-7.323 18.279,-2.54 ; 19.972,-2.54 19.972,-7.332 20.395,-7.755 20.819,-7.332 ; 20.819,-7.323 20.819,-2.54 ; 22.512,-2.54 22.512,-7.332 22.935,-7.755 23.359,-7.332 ; 23.359,-7.323 23.359,-2.54 ; -24.13,-2.54 -24.13,-1.143 -22.352,-1.143 24.13,-1.143 24.13,-2.54 -24.13,-2.54
3D body "HDR2.54-1P_H.STEP": height 4.85, standoff -3, extent -24.13,-7.77 -21.59,1.27
3D body "HDR2.54-1P_H.STEP": height 4.85, standoff -3, extent -21.59,-7.77 -19.05,1.27
3D body "HDR2.54-1P_H.STEP": height 4.85, standoff -3, extent -19.05,-7.77 -16.51,1.27
3D body "HDR2.54-1P_H.STEP": height 4.85, standoff -3, extent -16.51,-7.77 -13.97,1.27
3D body "HDR2.54-1P_H.STEP": height 4.85, standoff -3, extent -13.97,-7.77 -11.43,1.27
3D body "HDR2.54-1P_H.STEP": height 4.85, standoff -3, extent -11.43,-7.77 -8.89,1.27
3D body "HDR2.54-1P_H.STEP": height 4.85, standoff -3, extent -8.89,-7.77 -6.35,1.27
3D body "HDR2.54-1P_H.STEP": height 4.85, standoff -3, extent -6.35,-7.77 -3.81,1.27
3D body "HDR2.54-1P_H.STEP": height 4.85, standoff -3, extent -3.81,-7.77 -1.27,1.27
3D body "HDR2.54-1P_H.STEP": height 4.85, standoff -3, extent -1.27,-7.77 1.27,1.27
3D body "HDR2.54-1P_H.STEP": height 4.85, standoff -3, extent 1.27,-7.77 3.81,1.27
3D body "HDR2.54-1P_H.STEP": height 4.85, standoff -3, extent 3.81,-7.77 6.35,1.27
3D body "HDR2.54-1P_H.STEP": height 4.85, standoff -3, extent 6.35,-7.77 8.89,1.27
3D body "HDR2.54-1P_H.STEP": height 4.85, standoff -3, extent 8.89,-7.77 11.43,1.27
3D body "HDR2.54-1P_H.STEP": height 4.85, standoff -3, extent 11.43,-7.77 13.97,1.27
3D body "HDR2.54-1P_H.STEP": height 4.85, standoff -3, extent 13.97,-7.77 16.51,1.27
3D body "HDR2.54-1P_H.STEP": height 4.85, standoff -3, extent 16.51,-7.77 19.05,1.27
3D body "HDR2.54-1P_H.STEP": height 4.85, standoff -3, extent 19.05,-7.77 21.59,1.27
3D body "HDR2.54-1P_H.STEP": height 4.85, standoff -3, extent 21.59,-7.77 24.13,1.27

## HDR2.54-WI-20P [mm] "弯脚排针，20脚"
pads (20):
  rect 1.7x1.7 hole 0.9: 1(-24.13,0)
  round 1.7 hole 0.9: 2(-21.59,0) 3(-19.05,0) 4(-16.51,0) 5(-13.97,0) 6(-11.43,0) 7(-8.89,0) 8(-6.35,0) 9(-3.81,0) 10(-1.27,0) 11(1.27,0) 12(3.81,0) 13(6.35,0) 14(8.89,0) 15(11.43,0) 16(13.97,0) 17(16.51,0) 18(19.05,0) 19(21.59,0) 20(24.13,0)
Top Overlay:
  lines w0.2: -25.4,-1.905 -24.765,-1.27 ; -24.478,-2.54 -24.478,-7.332 -24.055,-7.755 -23.631,-7.332 -23.622,-7.323 ; -23.631,-7.323 -23.631,-2.54 ; -21.938,-2.54 -21.938,-7.332 -21.515,-7.755 -21.091,-7.332 ; -21.091,-7.323 -21.091,-2.54 ; -19.398,-2.54 -19.398,-7.332 -18.975,-7.755 -18.551,-7.332 ; -18.551,-7.323 -18.551,-2.54 ; -16.858,-2.54 -16.858,-7.332 -16.435,-7.755 -16.011,-7.332 ; -16.011,-7.323 -16.011,-2.54 ; -14.318,-2.54 -14.318,-7.332 -13.895,-7.755 -13.471,-7.332 ; -13.471,-7.323 -13.471,-2.54 ; -11.778,-2.54 -11.778,-7.332 -11.355,-7.755 -10.931,-7.332 ; -10.931,-7.323 -10.931,-2.54 ; -9.238,-2.54 -9.238,-7.332 -8.815,-7.755 -8.391,-7.332 ; -8.391,-7.323 -8.391,-2.54 ; -6.698,-2.54 -6.698,-7.332 -6.275,-7.755 -5.851,-7.332 ; -5.851,-7.323 -5.851,-2.54 ; -4.158,-2.54 -4.158,-7.332 -3.735,-7.755 -3.311,-7.332 ; -3.311,-7.323 -3.311,-2.54 ; -1.618,-2.54 -1.618,-7.332 -1.195,-7.755 -0.771,-7.332 ; -0.771,-7.323 -0.771,-2.54 ; 0.922,-2.54 0.922,-7.332 1.345,-7.755 1.769,-7.332 ; 1.769,-7.323 1.769,-2.54 ; 3.462,-2.54 3.462,-7.332 3.885,-7.755 4.309,-7.332 ; 4.309,-7.323 4.309,-2.54 ; 6.002,-2.54 6.002,-7.332 6.425,-7.755 6.849,-7.332 ; 6.849,-7.323 6.849,-2.54 ; 8.542,-2.54 8.542,-7.332 8.965,-7.755 9.389,-7.332 ; 9.389,-7.323 9.389,-2.54 ; 11.082,-2.54 11.082,-7.332 11.505,-7.755 11.929,-7.332 ; 11.929,-7.323 11.929,-2.54 ; 13.622,-2.54 13.622,-7.332 14.045,-7.755 14.469,-7.332 ; 14.469,-7.323 14.469,-2.54 ; 16.162,-2.54 16.162,-7.332 16.585,-7.755 17.009,-7.332 ; 17.009,-7.323 17.009,-2.54 ; 18.702,-2.54 18.702,-7.332 19.125,-7.755 19.549,-7.332 ; 19.549,-7.323 19.549,-2.54 ; 21.242,-2.54 21.242,-7.332 21.665,-7.755 22.089,-7.332 ; 22.089,-7.323 22.089,-2.54 ; 23.782,-2.54 23.782,-7.332 24.205,-7.755 24.629,-7.332 ; 24.629,-7.323 24.629,-2.54 ; -25.4,-2.54 25.4,-2.54 25.4,-1.143 -23.622,-1.143 -25.4,-1.143 -25.4,-2.54
3D body "HDR2.54-1P_H.STEP": height 4.85, standoff -3, extent 22.86,-7.77 25.4,1.27
3D body "HDR2.54-1P_H.STEP": height 4.85, standoff -3, extent 20.32,-7.77 22.86,1.27
3D body "HDR2.54-1P_H.STEP": height 4.85, standoff -3, extent 17.78,-7.77 20.32,1.27
3D body "HDR2.54-1P_H.STEP": height 4.85, standoff -3, extent 15.24,-7.77 17.78,1.27
3D body "HDR2.54-1P_H.STEP": height 4.85, standoff -3, extent 12.7,-7.77 15.24,1.27
3D body "HDR2.54-1P_H.STEP": height 4.85, standoff -3, extent 10.16,-7.77 12.7,1.27
3D body "HDR2.54-1P_H.STEP": height 4.85, standoff -3, extent 7.62,-7.77 10.16,1.27
3D body "HDR2.54-1P_H.STEP": height 4.85, standoff -3, extent 5.08,-7.77 7.62,1.27
3D body "HDR2.54-1P_H.STEP": height 4.85, standoff -3, extent 2.54,-7.77 5.08,1.27
3D body "HDR2.54-1P_H.STEP": height 4.85, standoff -3, extent 0,-7.77 2.54,1.27
3D body "HDR2.54-1P_H.STEP": height 4.85, standoff -3, extent -2.54,-7.77 0,1.27
3D body "HDR2.54-1P_H.STEP": height 4.85, standoff -3, extent -5.08,-7.77 -2.54,1.27
3D body "HDR2.54-1P_H.STEP": height 4.85, standoff -3, extent -7.62,-7.77 -5.08,1.27
3D body "HDR2.54-1P_H.STEP": height 4.85, standoff -3, extent -10.16,-7.77 -7.62,1.27
3D body "HDR2.54-1P_H.STEP": height 4.85, standoff -3, extent -12.7,-7.77 -10.16,1.27
3D body "HDR2.54-1P_H.STEP": height 4.85, standoff -3, extent -15.24,-7.77 -12.7,1.27
3D body "HDR2.54-1P_H.STEP": height 4.85, standoff -3, extent -17.78,-7.77 -15.24,1.27
3D body "HDR2.54-1P_H.STEP": height 4.85, standoff -3, extent -20.32,-7.77 -17.78,1.27
3D body "HDR2.54-1P_H.STEP": height 4.85, standoff -3, extent -22.86,-7.77 -20.32,1.27
3D body "HDR2.54-1P_H.STEP": height 4.85, standoff -3, extent -25.4,-7.77 -22.86,1.27